# Altium integrated library Texas Instruments Interface 1394.IntLib: 47 symbols (part 10 of 17)
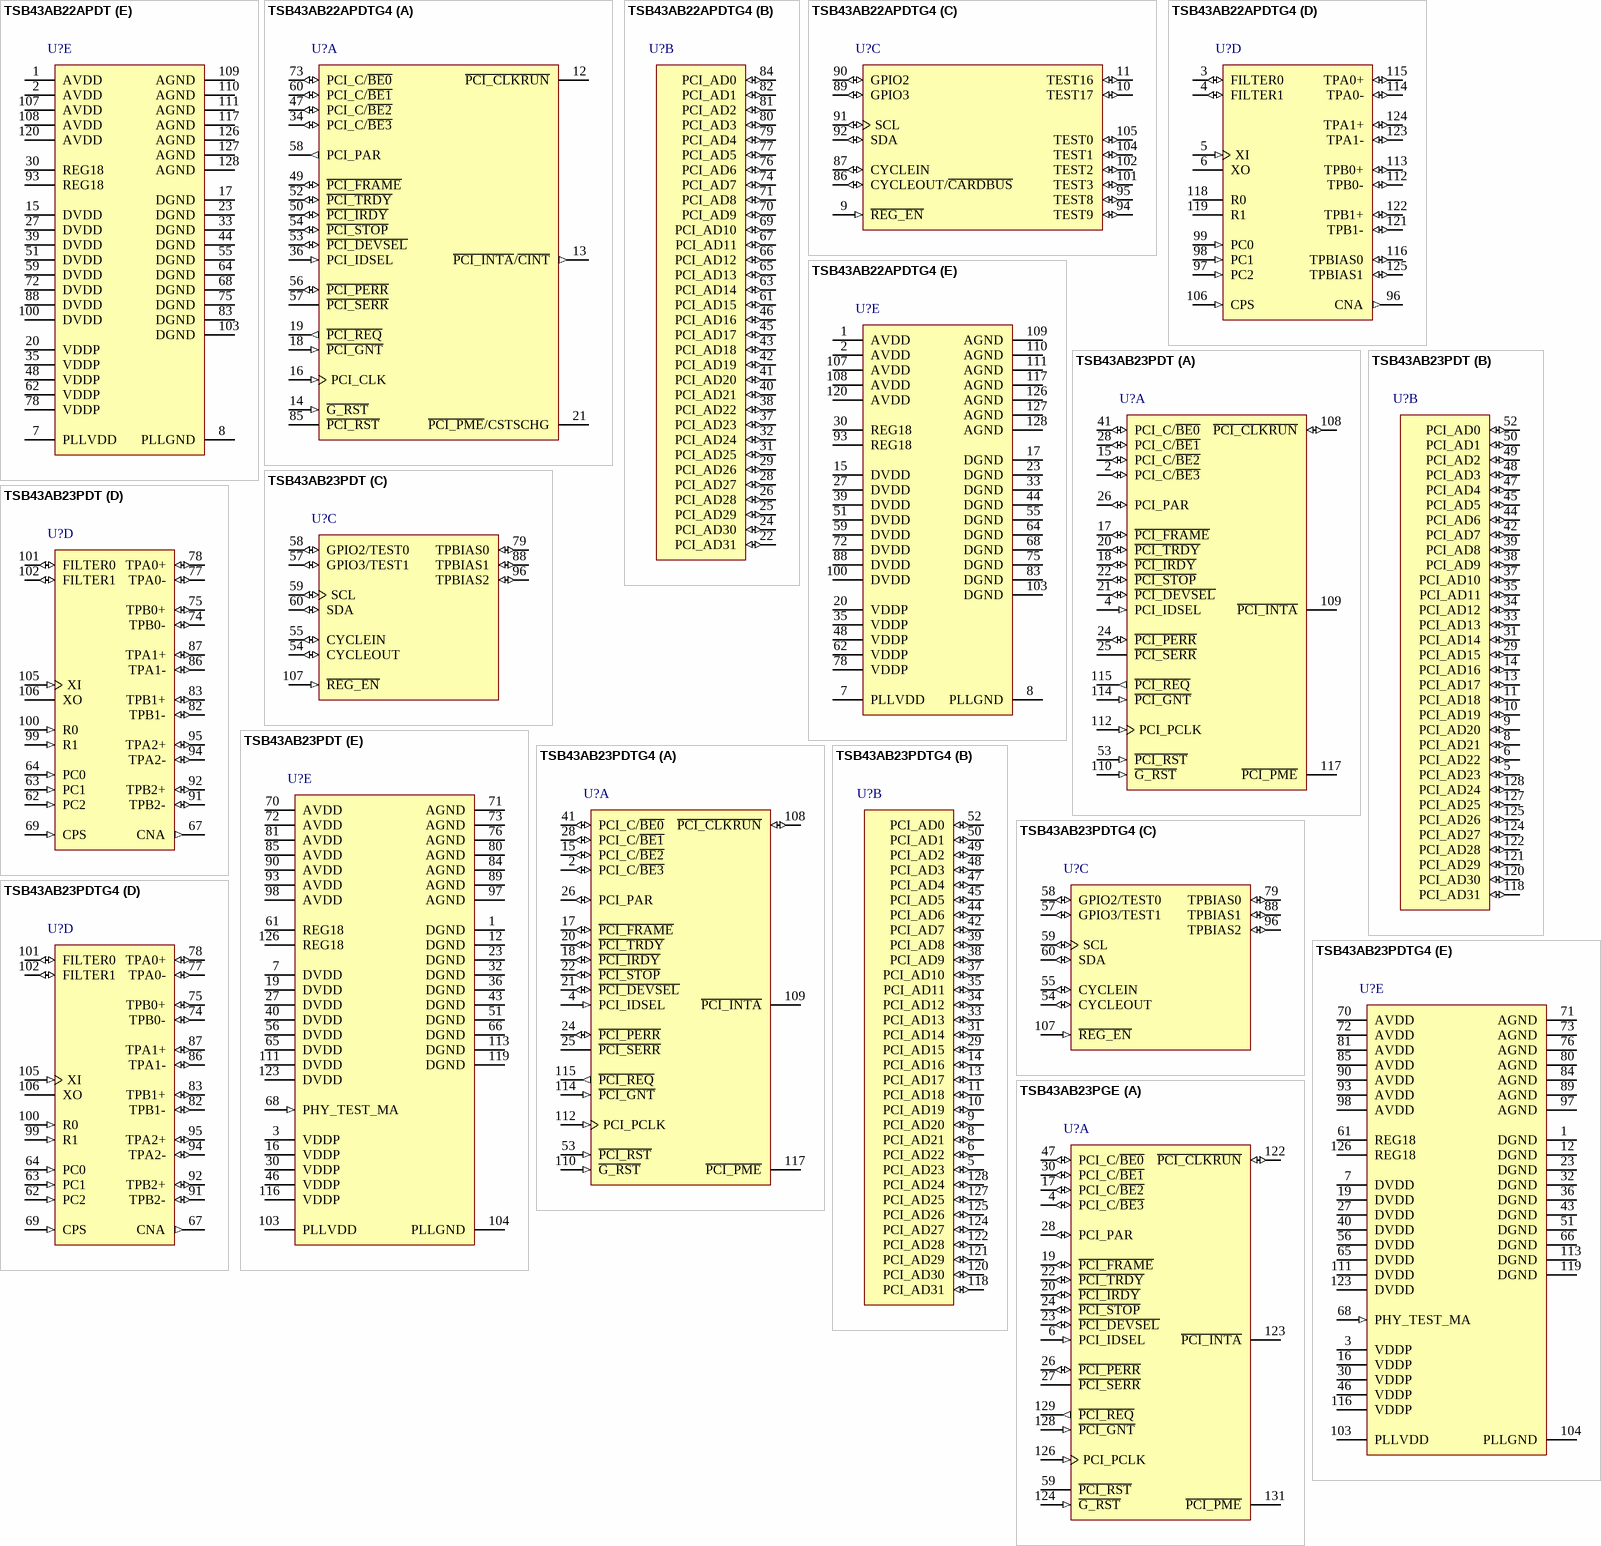
[diagram p20: symbols TSB43AB22APDT to TSB43AB23PGE]

## TSB43AB23PDT
designator U?
IEEE 1394a-2000 OHCI PHY/Link Layer Controller, 0 to 70 degC, 128-Pin TQFP (PDT), Green (RoHS & no Sb/Br); PartNumber: TSB43AB23PDT; Manufacturer: Texas Instruments; SubFamily: 1394 Integrated Device; Speed(Max)(Mbps): 400; FIFO(kb): 9; DatasheetVersion: SLLS450A; PackageVersion: revA, Nov-1995; PackageReference: PDT128; PackageDescription: 128-Pin Plastic Quad Flat Pack, 14 x 14 mm Body, 0.4 mm Pitch; Mounting Technology: Surface Mount; ComponentLink1Description: Datasheet; ComponentLink1URL: http://www.ti.com/general/docs/lit/getliterature.tsp?genericPartNumber=TSB43AB23&fileType=pdf; ComponentLink2Description: Package Specification; ComponentLink2URL: http://www.ti.com/litv/pdf/mpqf013
footprint TI-PDT128_N (Thin QFP, 128-Leads, Body 14x14mm, Pitch 0.4mm, IPC Medium Density)
footprint TI-PDT128_L (Thin QFP, 128-Leads, Body 14x14mm, Pitch 0.4mm, IPC High Density)
footprint TI-PDT128_M (Thin QFP, 128-Leads, Body 14x14mm, Pitch 0.4mm, IPC Low Density)
part A pins: 2 PCI_C/~{BE3} (io) "PCI bus commands and byte enables. The command and byte enable signals are multiplexed on the same PCI terminals. [see datasheet]", 4 PCI_IDSEL (in) "Initialization device select. PCI_IDSEL selects the TSB43AB23 device during configuration space accesses. [see datasheet]", 15 PCI_C/~{BE2} (io) "PCI bus commands and byte enables. The command and byte enable signals are multiplexed on the same PCI terminals. [see datasheet]", 17 ~{PCI_FRAME} (io) "PCI cycle frame. This signal is driven by the initiator of a PCI bus cycle. [see datasheet]", 18 ~{PCI_IRDY} (io) "PCI initiator ready. P\C\I\_\I\R\D\Y\ indicates the ability of the PCI bus initiator to complete the current data phase of the transaction. [see datasheet]", 20 ~{PCI_TRDY} (io) "PCI target ready. P\C\I\_\T\R\D\Y\ indicates the ability of the PCI bus target to complete the current data phase of the transaction. [see datasheet]", 21 ~{PCI_DEVSEL} (io) "PCI device select. The TSB43AB23 device asserts this signal to claim a PCI cycle as the target device. [see datasheet]", 22 ~{PCI_STOP} (io) "PCI cycle stop signal. This signal is driven by a PCI target to request the initiator to stop the current PCI bus transaction. [see datasheet]", 24 ~{PCI_PERR} (io) "PCI parity error indicator. [see datasheet]", 25 ~{PCI_SERR} (oc) "PCI system error. When bit 8 (SERR_ENB) in the command register at offset 04h in the PCI configuration space (see Section 3. [see datasheet]", 26 PCI_PAR (io) "PCI parity. In all PCI bus read and write cycles, the TSB43AB23 device calculates even parity across the PCI_AD and PCI_C/B\E\ buses. [see datasheet]", 28 PCI_C/~{BE1} (io) "PCI bus commands and byte enables. The command and byte enable signals are multiplexed on the same PCI terminals. [see datasheet]", 41 PCI_C/~{BE0} (io) "PCI bus commands and byte enables. The command and byte enable signals are multiplexed on the same PCI terminals. [see datasheet]", 53 ~{PCI_RST} (in) "PCI reset. [see datasheet]", 108 ~{PCI_CLKRUN} (io) "Clock run. This terminal provides clock control through the C\L\K\R\U\N\ protocol. [see datasheet]", 109 ~{PCI_INTA} (oc) "Interrupt signal. This output indicates interrupts from the TSB43AB23 device to the host. This terminal is implemented as open-drain.", 110 ~{G_RST} (in) "Global power reset. This reset brings all of the TSB43AB23 internal registers to their default states, including those registers not reset by P\C\I\_\R\S\T\. [see datasheet]", 112 PCI_PCLK (in) "PCI bus clock. Provides timing for all transactions on the PCI bus. All PCI signals are sampled at the rising edge of PCI_CLK.", 114 ~{PCI_GNT} (in) "PCI bus grant. This signal is driven by the PCI bus arbiter to grant the TSB43AB23 device access to the PCI bus after the current data transaction has completed. [see datasheet]", 115 ~{PCI_REQ} (out) "PCI bus request. Asserted by the TSB43AB23 device to request access to the bus as an initiator. [see datasheet]", 117 ~{PCI_PME} (oc) "Power management event. This terminal indicates wake events to the host and is implemented as an open-drain output."
part B pins: 5 PCI_AD23 (io) "PCI address/data bus. These signals make up the multiplexed PCI address and data bus on the PCI interface. [see datasheet]", 6 PCI_AD22 (io) "PCI address/data bus. These signals make up the multiplexed PCI address and data bus on the PCI interface. [see datasheet]", 8 PCI_AD21 (io) "PCI address/data bus. These signals make up the multiplexed PCI address and data bus on the PCI interface. [see datasheet]", 9 PCI_AD20 (io) "PCI address/data bus. These signals make up the multiplexed PCI address and data bus on the PCI interface. [see datasheet]", 10 PCI_AD19 (io) "PCI address/data bus. These signals make up the multiplexed PCI address and data bus on the PCI interface. [see datasheet]", 11 PCI_AD18 (io) "PCI address/data bus. These signals make up the multiplexed PCI address and data bus on the PCI interface. [see datasheet]", 13 PCI_AD17 (io) "PCI address/data bus. These signals make up the multiplexed PCI address and data bus on the PCI interface. [see datasheet]", 14 PCI_AD16 (io) "PCI address/data bus. These signals make up the multiplexed PCI address and data bus on the PCI interface. [see datasheet]", 29 PCI_AD15 (io) "PCI address/data bus. These signals make up the multiplexed PCI address and data bus on the PCI interface. [see datasheet]", 31 PCI_AD14 (io) "PCI address/data bus. These signals make up the multiplexed PCI address and data bus on the PCI interface. [see datasheet]", 33 PCI_AD13 (io) "PCI address/data bus. These signals make up the multiplexed PCI address and data bus on the PCI interface. [see datasheet]", 34 PCI_AD12 (io) "PCI address/data bus. These signals make up the multiplexed PCI address and data bus on the PCI interface. [see datasheet]", 35 PCI_AD11 (io) "PCI address/data bus. These signals make up the multiplexed PCI address and data bus on the PCI interface. [see datasheet]", 37 PCI_AD10 (io) "PCI address/data bus. These signals make up the multiplexed PCI address and data bus on the PCI interface. [see datasheet]", 38 PCI_AD9 (io) "PCI address/data bus. These signals make up the multiplexed PCI address and data bus on the PCI interface. [see datasheet]", 39 PCI_AD8 (io) "PCI address/data bus. These signals make up the multiplexed PCI address and data bus on the PCI interface. [see datasheet]", 42 PCI_AD7 (io) "PCI address/data bus. These signals make up the multiplexed PCI address and data bus on the PCI interface. [see datasheet]", 44 PCI_AD6 (io) "PCI address/data bus. These signals make up the multiplexed PCI address and data bus on the PCI interface. [see datasheet]", 45 PCI_AD5 (io) "PCI address/data bus. These signals make up the multiplexed PCI address and data bus on the PCI interface. [see datasheet]", 47 PCI_AD4 (io) "PCI address/data bus. These signals make up the multiplexed PCI address and data bus on the PCI interface. [see datasheet]", 48 PCI_AD3 (io) "PCI address/data bus. These signals make up the multiplexed PCI address and data bus on the PCI interface. [see datasheet]", 49 PCI_AD2 (io) "PCI address/data bus. These signals make up the multiplexed PCI address and data bus on the PCI interface. [see datasheet]", 50 PCI_AD1 (io) "PCI address/data bus. These signals make up the multiplexed PCI address and data bus on the PCI interface. [see datasheet]", 52 PCI_AD0 (io) "PCI address/data bus. These signals make up the multiplexed PCI address and data bus on the PCI interface. [see datasheet]", 118 PCI_AD31 (io) "PCI address/data bus. These signals make up the multiplexed PCI address and data bus on the PCI interface. During the address phase of a PCI cycle, AD31-AD0 contain a 32-bit address or other destination information. During the data phase, AD31-AD0 contai", 120 PCI_AD30 (io) "PCI address/data bus. These signals make up the multiplexed PCI address and data bus on the PCI interface. [see datasheet]", 121 PCI_AD29 (io) "PCI address/data bus. These signals make up the multiplexed PCI address and data bus on the PCI interface. [see datasheet]", 122 PCI_AD28 (io) "PCI address/data bus. These signals make up the multiplexed PCI address and data bus on the PCI interface. [see datasheet]", 124 PCI_AD27 (io) "PCI address/data bus. These signals make up the multiplexed PCI address and data bus on the PCI interface. [see datasheet]", 125 PCI_AD26 (io) "PCI address/data bus. These signals make up the multiplexed PCI address and data bus on the PCI interface. [see datasheet]", 127 PCI_AD25 (io) "PCI address/data bus. These signals make up the multiplexed PCI address and data bus on the PCI interface. [see datasheet]", 128 PCI_AD24 (io) "PCI address/data bus. These signals make up the multiplexed PCI address and data bus on the PCI interface. [see datasheet]"
part C pins: 54 CYCLEOUT (io) "The CYCLEOUT terminal provides an 8-kHz cycle timer synchronization signal. If CYCLEOUT is not implemented, this terminal must be pulled down to ground through a pulldown resistor.", 55 CYCLEIN (io) "The CYCLEIN terminal allows an external 8-kHz clock to be used as a cycle timer for synchronization with other system devices. [see datasheet]", 57 GPIO3/TEST1 (io) "General-purpose I/O [3]. This terminal defaults as an input and if it is not implemented, it is recommended that it be pulled low to ground with a 220-ohm resistor.", 58 GPIO2/TEST0 (io) "General-purpose I/O [2]. This terminal defaults as an input and if it is not implemented, it is recommended that it be pulled low to ground with a 220-ohm resistor.", 59 SCL (io) "Serial clock. This terminal provides the serial clock signaling and is implemented as open-drain. [see datasheet]", 60 SDA (io) "Serial data. At P\C\I\_\R\S\T\, the SDA signal is sampled to determine if a two-wire serial ROM is present. [see datasheet]", 79 TPBIAS0 (io) "Twisted-pair bias output. This provides the 1. [see datasheet]", 88 TPBIAS1 (io) "Twisted-pair bias output. This provides the 1. [see datasheet]", 96 TPBIAS2 (io) "Twisted-pair bias output. This provides the 1. [see datasheet]", 107 ~{REG_EN} (in) "Regulator enable. This terminal must be tied to ground to enable the internal voltage regulator. When using a single 3. [see datasheet]"
part D pins: 62 PC2 (in) "Power class programming inputs. On hardware reset, these inputs set the default value of the power class indicated during self-ID. Programming is done by tying these terminals high or low.", 63 PC1 (in) "Power class programming inputs. On hardware reset, these inputs set the default value of the power class indicated during self-ID. Programming is done by tying these terminals high or low.", 64 PC0 (in) "Power class programming inputs. On hardware reset, these inputs set the default value of the power class indicated during self-ID. Programming is done by tying these terminals high or low.", 67 CNA (out) "Cable not active. This terminal is asserted high when there are no ports receiving incoming bias voltage. [see datasheet]", 69 CPS (in) "Cable power status input. This terminal is normally connected to cable power through a 400-kohm resistor. [see datasheet]", 74 TPB0- (io) "Twisted-pair cable B differential signal terminals. [see datasheet]", 75 TPB0+ (io) "Twisted-pair cable B differential signal terminals. [see datasheet]", 77 TPA0- (io) "Twisted-pair cable A differential signal terminals. [see datasheet]", 78 TPA0+ (io) "Twisted-pair cable A differential signal terminals. [see datasheet]", 82 TPB1- (io) "Twisted-pair cable B differential signal terminals. [see datasheet]", 83 TPB1+ (io) "Twisted-pair cable B differential signal terminals. [see datasheet]", 86 TPA1- (io) "Twisted-pair cable A differential signal terminals. [see datasheet]", 87 TPA1+ (io) "Twisted-pair cable A differential signal terminals. [see datasheet]", 91 TPB2- (io) "Twisted-pair cable B differential signal terminals. [see datasheet]", 92 TPB2+ (io) "Twisted-pair cable B differential signal terminals. [see datasheet]", 94 TPA2- (io) "Twisted-pair cable B differential signal terminals. [see datasheet]", 95 TPA2+ (io) "Twisted-pair cable B differential signal terminals. [see datasheet]", 99 R1 (in) "Current-setting resistor terminals. These terminals are connected to an external resistance to set the internal operating currents and cable driver output currents. A resistance of 6. [see datasheet]", 100 R0 (in) "Current-setting resistor terminals. These terminals are connected to an external resistance to set the internal operating currents and cable driver output currents. A resistance of 6. [see datasheet]", 101 FILTER0 (io) "PLL filter terminals. [see datasheet]", 102 FILTER1 (io) "PLL filter terminals. [see datasheet]", 105 XI (in) "Crystal oscillator inputs. These pins connect to a 24.576-MHz parallel resonant fundamental mode crystal. [see datasheet]", 106 XO "Crystal oscillator inputs. These pins connect to a 24.576-MHz parallel resonant fundamental mode crystal. [see datasheet]"
part E pins: 1 DGND (power) "Digital circuit ground terminals. These terminals must be tied together to the low-impedance circuit board ground plane.", 3 VDDP (power) "PCI signaling clamp voltage power input. PCI signals are clamped per the PCI Local Bus Specification. In addition, if a 5-V ROM is used, the VDDP must be connected to 5 V.", 7 DVDD (power) "Digital circuit power terminals. A parallel combination of high frequency decoupling capacitors near each DVDD terminal is suggested, such as 0.1 uF and 0.001 uF. [see datasheet]", 12 DGND (power) "Digital circuit ground terminals. These terminals must be tied together to the low-impedance circuit board ground plane.", 16 VDDP (power) "PCI signaling clamp voltage power input. PCI signals are clamped per the PCI Local Bus Specification. In addition, if a 5-V ROM is used, the VDDP must be connected to 5 V.", 19 DVDD (power) "Digital circuit power terminals. A parallel combination of high frequency decoupling capacitors near each DVDD terminal is suggested, such as 0.1 uF and 0.001 uF. [see datasheet]", 23 DGND (power) "Digital circuit ground terminals. These terminals must be tied together to the low-impedance circuit board ground plane.", 27 DVDD (power) "Digital circuit power terminals. A parallel combination of high frequency decoupling capacitors near each DVDD terminal is suggested, such as 0.1 uF and 0.001 uF. [see datasheet]", 30 VDDP (power) "PCI signaling clamp voltage power input. PCI signals are clamped per the PCI Local Bus Specification. In addition, if a 5-V ROM is used, the VDDP must be connected to 5 V.", 32 DGND (power) "Digital circuit ground terminals. These terminals must be tied together to the low-impedance circuit board ground plane.", 36 DGND (power) "Digital circuit ground terminals. These terminals must be tied together to the low-impedance circuit board ground plane.", 40 DVDD (power) "Digital circuit power terminals. A parallel combination of high frequency decoupling capacitors near each DVDD terminal is suggested, such as 0.1 uF and 0.001 uF. [see datasheet]", 43 DGND (power) "Digital circuit ground terminals. These terminals must be tied together to the low-impedance circuit board ground plane.", 46 VDDP (power) "PCI signaling clamp voltage power input. PCI signals are clamped per the PCI Local Bus Specification. In addition, if a 5-V ROM is used, the VDDP must be connected to 5 V.", 51 DGND (power) "Digital circuit ground terminals. These terminals must be tied together to the low-impedance circuit board ground plane.", 56 DVDD (power) "Digital circuit power terminals. A parallel combination of high frequency decoupling capacitors near each DVDD terminal is suggested, such as 0.1 uF and 0.001 uF. [see datasheet]", 61 REG18 (power) "REG18. 1.8-V power supply for the device core. The internal voltage regulator provides 1.8 V from DVDD. [see datasheet]", 65 DVDD (power) "Digital circuit power terminals. A parallel combination of high frequency decoupling capacitors near each DVDD terminal is suggested, such as 0.1 uF and 0.001 uF. [see datasheet]", 66 DGND (power) "Digital circuit ground terminals. These terminals must be tied together to the low-impedance circuit board ground plane.", 68 PHY_TEST_MA (in) "Test control input. This input is used in the manufacturing test of the TSB43AB23 device. For normal use, the terminal must be tied to DVDD.", 70 AVDD (power) "Analog circuit power terminals. A parallel combination of high frequency decoupling capacitors near each terminal is suggested, such as 0.1 uF and 0.001 uF. [see datasheet]", 71 AGND (power) "Analog circuit ground terminals. These terminals must be tied together to the low-impedance circuit board ground plane.", 72 AVDD (power) "Analog circuit power terminals. A parallel combination of high frequency decoupling capacitors near each terminal is suggested, such as 0.1 uF and 0.001 uF. [see datasheet]", 73 AGND (power) "Analog circuit ground terminals. These terminals must be tied together to the low-impedance circuit board ground plane.", 76 AGND (power) "Analog circuit ground terminals. These terminals must be tied together to the low-impedance circuit board ground plane.", 80 AGND (power) "Analog circuit ground terminals. These terminals must be tied together to the low-impedance circuit board ground plane.", 81 AVDD (power) "Analog circuit power terminals. A parallel combination of high frequency decoupling capacitors near each terminal is suggested, such as 0.1 uF and 0.001 uF. [see datasheet]", 84 AGND (power) "Analog circuit ground terminals. These terminals must be tied together to the low-impedance circuit board ground plane.", 85 AVDD (power) "Analog circuit power terminals. A parallel combination of high frequency decoupling capacitors near each terminal is suggested, such as 0.1 uF and 0.001 uF. [see datasheet]", 89 AGND (power) "Analog circuit ground terminals. These terminals must be tied together to the low-impedance circuit board ground plane.", 90 AVDD (power) "Analog circuit power terminals. A parallel combination of high frequency decoupling capacitors near each terminal is suggested, such as 0.1 uF and 0.001 uF. [see datasheet]", 93 AVDD (power) "Analog circuit power terminals. A parallel combination of high frequency decoupling capacitors near each terminal is suggested, such as 0.1 uF and 0.001 uF. [see datasheet]", 97 AGND (power) "Analog circuit ground terminals. These terminals must be tied together to the low-impedance circuit board ground plane.", 98 AVDD (power) "Analog circuit power terminals. A parallel combination of high frequency decoupling capacitors near each terminal is suggested, such as 0.1 uF and 0.001 uF. [see datasheet]", 103 PLLVDD (power) "PLL circuit power terminal. A parallel combination of high frequency decoupling capacitors near the terminal is suggested, such as 0.1 uF and 0.001 µF. [see datasheet]", 104 PLLGND (power) "PLL circuit ground terminal. This terminal must be tied to the low-impedance circuit board ground plane.", 111 DVDD (power) "Digital circuit power terminals. A parallel combination of high frequency decoupling capacitors near each DVDD terminal is suggested, such as 0.1 uF and 0.001 uF. [see datasheet]", 113 DGND (power) "Digital circuit ground terminals. These terminals must be tied together to the low-impedance circuit board ground plane.", 116 VDDP (power) "PCI signaling clamp voltage power input. PCI signals are clamped per the PCI Local Bus Specification. In addition, if a 5-V ROM is used, the VDDP must be connected to 5 V.", 119 DGND (power) "Digital circuit ground terminals. These terminals must be tied together to the low-impedance circuit board ground plane.", 123 DVDD (power) "Digital circuit power terminals. A parallel combination of high frequency decoupling capacitors near each DVDD terminal is suggested, such as 0.1 uF and 0.001 uF. [see datasheet]", 126 REG18 (power) "REG18. 1.8-V power supply for the device core. The internal voltage regulator provides 1.8 V from DVDD. [see datasheet]"

## TSB43AB23PDTG4
designator U?
IEEE 1394a-2000 OHCI PHY/Link Layer Controller, 0 to 70 degC, 128-Pin TQFP (PDT), Green (RoHS & no Sb/Br); PartNumber: TSB43AB23PDTG4; Manufacturer: Texas Instruments; SubFamily: 1394 Integrated Device; Speed(Max)(Mbps): 400; FIFO(kb): 9; DatasheetVersion: SLLS450A; PackageVersion: revA, Nov-1995; PackageReference: PDT128; PackageDescription: 128-Pin Plastic Quad Flat Pack, 14 x 14 mm Body, 0.4 mm Pitch; Mounting Technology: Surface Mount; ComponentLink1Description: Datasheet; ComponentLink1URL: http://www.ti.com/general/docs/lit/getliterature.tsp?genericPartNumber=TSB43AB23&fileType=pdf; ComponentLink2Description: Package Specification; ComponentLink2URL: http://www.ti.com/litv/pdf/mpqf013
footprint TI-PDT128_N (Thin QFP, 128-Leads, Body 14x14mm, Pitch 0.4mm, IPC Medium Density)
footprint TI-PDT128_L (Thin QFP, 128-Leads, Body 14x14mm, Pitch 0.4mm, IPC High Density)
footprint TI-PDT128_M (Thin QFP, 128-Leads, Body 14x14mm, Pitch 0.4mm, IPC Low Density)
part A pins: 2 PCI_C/~{BE3} (io) "PCI bus commands and byte enables. The command and byte enable signals are multiplexed on the same PCI terminals. [see datasheet]", 4 PCI_IDSEL (in) "Initialization device select. PCI_IDSEL selects the TSB43AB23 device during configuration space accesses. [see datasheet]", 15 PCI_C/~{BE2} (io) "PCI bus commands and byte enables. The command and byte enable signals are multiplexed on the same PCI terminals. [see datasheet]", 17 ~{PCI_FRAME} (io) "PCI cycle frame. This signal is driven by the initiator of a PCI bus cycle. [see datasheet]", 18 ~{PCI_IRDY} (io) "PCI initiator ready. P\C\I\_\I\R\D\Y\ indicates the ability of the PCI bus initiator to complete the current data phase of the transaction. [see datasheet]", 20 ~{PCI_TRDY} (io) "PCI target ready. P\C\I\_\T\R\D\Y\ indicates the ability of the PCI bus target to complete the current data phase of the transaction. [see datasheet]", 21 ~{PCI_DEVSEL} (io) "PCI device select. The TSB43AB23 device asserts this signal to claim a PCI cycle as the target device. [see datasheet]", 22 ~{PCI_STOP} (io) "PCI cycle stop signal. This signal is driven by a PCI target to request the initiator to stop the current PCI bus transaction. [see datasheet]", 24 ~{PCI_PERR} (io) "PCI parity error indicator. [see datasheet]", 25 ~{PCI_SERR} (oc) "PCI system error. When bit 8 (SERR_ENB) in the command register at offset 04h in the PCI configuration space (see Section 3. [see datasheet]", 26 PCI_PAR (io) "PCI parity. In all PCI bus read and write cycles, the TSB43AB23 device calculates even parity across the PCI_AD and PCI_C/B\E\ buses. [see datasheet]", 28 PCI_C/~{BE1} (io) "PCI bus commands and byte enables. The command and byte enable signals are multiplexed on the same PCI terminals. [see datasheet]", 41 PCI_C/~{BE0} (io) "PCI bus commands and byte enables. The command and byte enable signals are multiplexed on the same PCI terminals. [see datasheet]", 53 ~{PCI_RST} (in) "PCI reset. [see datasheet]", 108 ~{PCI_CLKRUN} (io) "Clock run. This terminal provides clock control through the C\L\K\R\U\N\ protocol. [see datasheet]", 109 ~{PCI_INTA} (oc) "Interrupt signal. This output indicates interrupts from the TSB43AB23 device to the host. This terminal is implemented as open-drain.", 110 ~{G_RST} (in) "Global power reset. This reset brings all of the TSB43AB23 internal registers to their default states, including those registers not reset by P\C\I\_\R\S\T\. [see datasheet]", 112 PCI_PCLK (in) "PCI bus clock. Provides timing for all transactions on the PCI bus. All PCI signals are sampled at the rising edge of PCI_CLK.", 114 ~{PCI_GNT} (in) "PCI bus grant. This signal is driven by the PCI bus arbiter to grant the TSB43AB23 device access to the PCI bus after the current data transaction has completed. [see datasheet]", 115 ~{PCI_REQ} (out) "PCI bus request. Asserted by the TSB43AB23 device to request access to the bus as an initiator. [see datasheet]", 117 ~{PCI_PME} (oc) "Power management event. This terminal indicates wake events to the host and is implemented as an open-drain output."
part B pins: 5 PCI_AD23 (io) "PCI address/data bus. These signals make up the multiplexed PCI address and data bus on the PCI interface. [see datasheet]", 6 PCI_AD22 (io) "PCI address/data bus. These signals make up the multiplexed PCI address and data bus on the PCI interface. [see datasheet]", 8 PCI_AD21 (io) "PCI address/data bus. These signals make up the multiplexed PCI address and data bus on the PCI interface. [see datasheet]", 9 PCI_AD20 (io) "PCI address/data bus. These signals make up the multiplexed PCI address and data bus on the PCI interface. [see datasheet]", 10 PCI_AD19 (io) "PCI address/data bus. These signals make up the multiplexed PCI address and data bus on the PCI interface. [see datasheet]", 11 PCI_AD18 (io) "PCI address/data bus. These signals make up the multiplexed PCI address and data bus on the PCI interface. [see datasheet]", 13 PCI_AD17 (io) "PCI address/data bus. These signals make up the multiplexed PCI address and data bus on the PCI interface. [see datasheet]", 14 PCI_AD16 (io) "PCI address/data bus. These signals make up the multiplexed PCI address and data bus on the PCI interface. [see datasheet]", 29 PCI_AD15 (io) "PCI address/data bus. These signals make up the multiplexed PCI address and data bus on the PCI interface. [see datasheet]", 31 PCI_AD14 (io) "PCI address/data bus. These signals make up the multiplexed PCI address and data bus on the PCI interface. [see datasheet]", 33 PCI_AD13 (io) "PCI address/data bus. These signals make up the multiplexed PCI address and data bus on the PCI interface. [see datasheet]", 34 PCI_AD12 (io) "PCI address/data bus. These signals make up the multiplexed PCI address and data bus on the PCI interface. [see datasheet]", 35 PCI_AD11 (io) "PCI address/data bus. These signals make up the multiplexed PCI address and data bus on the PCI interface. [see datasheet]", 37 PCI_AD10 (io) "PCI address/data bus. These signals make up the multiplexed PCI address and data bus on the PCI interface. [see datasheet]", 38 PCI_AD9 (io) "PCI address/data bus. These signals make up the multiplexed PCI address and data bus on the PCI interface. [see datasheet]", 39 PCI_AD8 (io) "PCI address/data bus. These signals make up the multiplexed PCI address and data bus on the PCI interface. [see datasheet]", 42 PCI_AD7 (io) "PCI address/data bus. These signals make up the multiplexed PCI address and data bus on the PCI interface. [see datasheet]", 44 PCI_AD6 (io) "PCI address/data bus. These signals make up the multiplexed PCI address and data bus on the PCI interface. [see datasheet]", 45 PCI_AD5 (io) "PCI address/data bus. These signals make up the multiplexed PCI address and data bus on the PCI interface. [see datasheet]", 47 PCI_AD4 (io) "PCI address/data bus. These signals make up the multiplexed PCI address and data bus on the PCI interface. [see datasheet]", 48 PCI_AD3 (io) "PCI address/data bus. These signals make up the multiplexed PCI address and data bus on the PCI interface. [see datasheet]", 49 PCI_AD2 (io) "PCI address/data bus. These signals make up the multiplexed PCI address and data bus on the PCI interface. [see datasheet]", 50 PCI_AD1 (io) "PCI address/data bus. These signals make up the multiplexed PCI address and data bus on the PCI interface. [see datasheet]", 52 PCI_AD0 (io) "PCI address/data bus. These signals make up the multiplexed PCI address and data bus on the PCI interface. [see datasheet]", 118 PCI_AD31 (io) "PCI address/data bus. These signals make up the multiplexed PCI address and data bus on the PCI interface. During the address phase of a PCI cycle, AD31-AD0 contain a 32-bit address or other destination information. During the data phase, AD31-AD0 contai", 120 PCI_AD30 (io) "PCI address/data bus. These signals make up the multiplexed PCI address and data bus on the PCI interface. [see datasheet]", 121 PCI_AD29 (io) "PCI address/data bus. These signals make up the multiplexed PCI address and data bus on the PCI interface. [see datasheet]", 122 PCI_AD28 (io) "PCI address/data bus. These signals make up the multiplexed PCI address and data bus on the PCI interface. [see datasheet]", 124 PCI_AD27 (io) "PCI address/data bus. These signals make up the multiplexed PCI address and data bus on the PCI interface. [see datasheet]", 125 PCI_AD26 (io) "PCI address/data bus. These signals make up the multiplexed PCI address and data bus on the PCI interface. [see datasheet]", 127 PCI_AD25 (io) "PCI address/data bus. These signals make up the multiplexed PCI address and data bus on the PCI interface. [see datasheet]", 128 PCI_AD24 (io) "PCI address/data bus. These signals make up the multiplexed PCI address and data bus on the PCI interface. [see datasheet]"
part C pins: 54 CYCLEOUT (io) "The CYCLEOUT terminal provides an 8-kHz cycle timer synchronization signal. If CYCLEOUT is not implemented, this terminal must be pulled down to ground through a pulldown resistor.", 55 CYCLEIN (io) "The CYCLEIN terminal allows an external 8-kHz clock to be used as a cycle timer for synchronization with other system devices. [see datasheet]", 57 GPIO3/TEST1 (io) "General-purpose I/O [3]. This terminal defaults as an input and if it is not implemented, it is recommended that it be pulled low to ground with a 220-ohm resistor.", 58 GPIO2/TEST0 (io) "General-purpose I/O [2]. This terminal defaults as an input and if it is not implemented, it is recommended that it be pulled low to ground with a 220-ohm resistor.", 59 SCL (io) "Serial clock. This terminal provides the serial clock signaling and is implemented as open-drain. [see datasheet]", 60 SDA (io) "Serial data. At P\C\I\_\R\S\T\, the SDA signal is sampled to determine if a two-wire serial ROM is present. [see datasheet]", 79 TPBIAS0 (io) "Twisted-pair bias output. This provides the 1. [see datasheet]", 88 TPBIAS1 (io) "Twisted-pair bias output. This provides the 1. [see datasheet]", 96 TPBIAS2 (io) "Twisted-pair bias output. This provides the 1. [see datasheet]", 107 ~{REG_EN} (in) "Regulator enable. This terminal must be tied to ground to enable the internal voltage regulator. When using a single 3. [see datasheet]"
part D pins: 62 PC2 (in) "Power class programming inputs. On hardware reset, these inputs set the default value of the power class indicated during self-ID. Programming is done by tying these terminals high or low.", 63 PC1 (in) "Power class programming inputs. On hardware reset, these inputs set the default value of the power class indicated during self-ID. Programming is done by tying these terminals high or low.", 64 PC0 (in) "Power class programming inputs. On hardware reset, these inputs set the default value of the power class indicated during self-ID. Programming is done by tying these terminals high or low.", 67 CNA (out) "Cable not active. This terminal is asserted high when there are no ports receiving incoming bias voltage. [see datasheet]", 69 CPS (in) "Cable power status input. This terminal is normally connected to cable power through a 400-kohm resistor. [see datasheet]", 74 TPB0- (io) "Twisted-pair cable B differential signal terminals. [see datasheet]", 75 TPB0+ (io) "Twisted-pair cable B differential signal terminals. [see datasheet]", 77 TPA0- (io) "Twisted-pair cable A differential signal terminals. [see datasheet]", 78 TPA0+ (io) "Twisted-pair cable A differential signal terminals. [see datasheet]", 82 TPB1- (io) "Twisted-pair cable B differential signal terminals. [see datasheet]", 83 TPB1+ (io) "Twisted-pair cable B differential signal terminals. [see datasheet]", 86 TPA1- (io) "Twisted-pair cable A differential signal terminals. [see datasheet]", 87 TPA1+ (io) "Twisted-pair cable A differential signal terminals. [see datasheet]", 91 TPB2- (io) "Twisted-pair cable B differential signal terminals. [see datasheet]", 92 TPB2+ (io) "Twisted-pair cable B differential signal terminals. [see datasheet]", 94 TPA2- (io) "Twisted-pair cable B differential signal terminals. [see datasheet]", 95 TPA2+ (io) "Twisted-pair cable B differential signal terminals. [see datasheet]", 99 R1 (in) "Current-setting resistor terminals. These terminals are connected to an external resistance to set the internal operating currents and cable driver output currents. A resistance of 6. [see datasheet]", 100 R0 (in) "Current-setting resistor terminals. These terminals are connected to an external resistance to set the internal operating currents and cable driver output currents. A resistance of 6. [see datasheet]", 101 FILTER0 (io) "PLL filter terminals. [see datasheet]", 102 FILTER1 (io) "PLL filter terminals. [see datasheet]", 105 XI (in) "Crystal oscillator inputs. These pins connect to a 24.576-MHz parallel resonant fundamental mode crystal. [see datasheet]", 106 XO "Crystal oscillator inputs. These pins connect to a 24.576-MHz parallel resonant fundamental mode crystal. [see datasheet]"
part E pins: 1 DGND (power) "Digital circuit ground terminals. These terminals must be tied together to the low-impedance circuit board ground plane.", 3 VDDP (power) "PCI signaling clamp voltage power input. PCI signals are clamped per the PCI Local Bus Specification. In addition, if a 5-V ROM is used, the VDDP must be connected to 5 V.", 7 DVDD (power) "Digital circuit power terminals. A parallel combination of high frequency decoupling capacitors near each DVDD terminal is suggested, such as 0.1 uF and 0.001 uF. [see datasheet]", 12 DGND (power) "Digital circuit ground terminals. These terminals must be tied together to the low-impedance circuit board ground plane.", 16 VDDP (power) "PCI signaling clamp voltage power input. PCI signals are clamped per the PCI Local Bus Specification. In addition, if a 5-V ROM is used, the VDDP must be connected to 5 V.", 19 DVDD (power) "Digital circuit power terminals. A parallel combination of high frequency decoupling capacitors near each DVDD terminal is suggested, such as 0.1 uF and 0.001 uF. [see datasheet]", 23 DGND (power) "Digital circuit ground terminals. These terminals must be tied together to the low-impedance circuit board ground plane.", 27 DVDD (power) "Digital circuit power terminals. A parallel combination of high frequency decoupling capacitors near each DVDD terminal is suggested, such as 0.1 uF and 0.001 uF. [see datasheet]", 30 VDDP (power) "PCI signaling clamp voltage power input. PCI signals are clamped per the PCI Local Bus Specification. In addition, if a 5-V ROM is used, the VDDP must be connected to 5 V.", 32 DGND (power) "Digital circuit ground terminals. These terminals must be tied together to the low-impedance circuit board ground plane.", 36 DGND (power) "Digital circuit ground terminals. These terminals must be tied together to the low-impedance circuit board ground plane.", 40 DVDD (power) "Digital circuit power terminals. A parallel combination of high frequency decoupling capacitors near each DVDD terminal is suggested, such as 0.1 uF and 0.001 uF. [see datasheet]", 43 DGND (power) "Digital circuit ground terminals. These terminals must be tied together to the low-impedance circuit board ground plane.", 46 VDDP (power) "PCI signaling clamp voltage power input. PCI signals are clamped per the PCI Local Bus Specification. In addition, if a 5-V ROM is used, the VDDP must be connected to 5 V.", 51 DGND (power) "Digital circuit ground terminals. These terminals must be tied together to the low-impedance circuit board ground plane.", 56 DVDD (power) "Digital circuit power terminals. A parallel combination of high frequency decoupling capacitors near each DVDD terminal is suggested, such as 0.1 uF and 0.001 uF. [see datasheet]", 61 REG18 (power) "REG18. 1.8-V power supply for the device core. The internal voltage regulator provides 1.8 V from DVDD. [see datasheet]", 65 DVDD (power) "Digital circuit power terminals. A parallel combination of high frequency decoupling capacitors near each DVDD terminal is suggested, such as 0.1 uF and 0.001 uF. [see datasheet]", 66 DGND (power) "Digital circuit ground terminals. These terminals must be tied together to the low-impedance circuit board ground plane.", 68 PHY_TEST_MA (in) "Test control input. This input is used in the manufacturing test of the TSB43AB23 device. For normal use, the terminal must be tied to DVDD.", 70 AVDD (power) "Analog circuit power terminals. A parallel combination of high frequency decoupling capacitors near each terminal is suggested, such as 0.1 uF and 0.001 uF. [see datasheet]", 71 AGND (power) "Analog circuit ground terminals. These terminals must be tied together to the low-impedance circuit board ground plane.", 72 AVDD (power) "Analog circuit power terminals. A parallel combination of high frequency decoupling capacitors near each terminal is suggested, such as 0.1 uF and 0.001 uF. [see datasheet]", 73 AGND (power) "Analog circuit ground terminals. These terminals must be tied together to the low-impedance circuit board ground plane.", 76 AGND (power) "Analog circuit ground terminals. These terminals must be tied together to the low-impedance circuit board ground plane.", 80 AGND (power) "Analog circuit ground terminals. These terminals must be tied together to the low-impedance circuit board ground plane.", 81 AVDD (power) "Analog circuit power terminals. A parallel combination of high frequency decoupling capacitors near each terminal is suggested, such as 0.1 uF and 0.001 uF. [see datasheet]", 84 AGND (power) "Analog circuit ground terminals. These terminals must be tied together to the low-impedance circuit board ground plane.", 85 AVDD (power) "Analog circuit power terminals. A parallel combination of high frequency decoupling capacitors near each terminal is suggested, such as 0.1 uF and 0.001 uF. [see datasheet]", 89 AGND (power) "Analog circuit ground terminals. These terminals must be tied together to the low-impedance circuit board ground plane.", 90 AVDD (power) "Analog circuit power terminals. A parallel combination of high frequency decoupling capacitors near each terminal is suggested, such as 0.1 uF and 0.001 uF. [see datasheet]", 93 AVDD (power) "Analog circuit power terminals. A parallel combination of high frequency decoupling capacitors near each terminal is suggested, such as 0.1 uF and 0.001 uF. [see datasheet]", 97 AGND (power) "Analog circuit ground terminals. These terminals must be tied together to the low-impedance circuit board ground plane.", 98 AVDD (power) "Analog circuit power terminals. A parallel combination of high frequency decoupling capacitors near each terminal is suggested, such as 0.1 uF and 0.001 uF. [see datasheet]", 103 PLLVDD (power) "PLL circuit power terminal. A parallel combination of high frequency decoupling capacitors near the terminal is suggested, such as 0.1 uF and 0.001 µF. [see datasheet]", 104 PLLGND (power) "PLL circuit ground terminal. This terminal must be tied to the low-impedance circuit board ground plane.", 111 DVDD (power) "Digital circuit power terminals. A parallel combination of high frequency decoupling capacitors near each DVDD terminal is suggested, such as 0.1 uF and 0.001 uF. [see datasheet]", 113 DGND (power) "Digital circuit ground terminals. These terminals must be tied together to the low-impedance circuit board ground plane.", 116 VDDP (power) "PCI signaling clamp voltage power input. PCI signals are clamped per the PCI Local Bus Specification. In addition, if a 5-V ROM is used, the VDDP must be connected to 5 V.", 119 DGND (power) "Digital circuit ground terminals. These terminals must be tied together to the low-impedance circuit board ground plane.", 123 DVDD (power) "Digital circuit power terminals. A parallel combination of high frequency decoupling capacitors near each DVDD terminal is suggested, such as 0.1 uF and 0.001 uF. [see datasheet]", 126 REG18 (power) "REG18. 1.8-V power supply for the device core. The internal voltage regulator provides 1.8 V from DVDD. [see datasheet]"

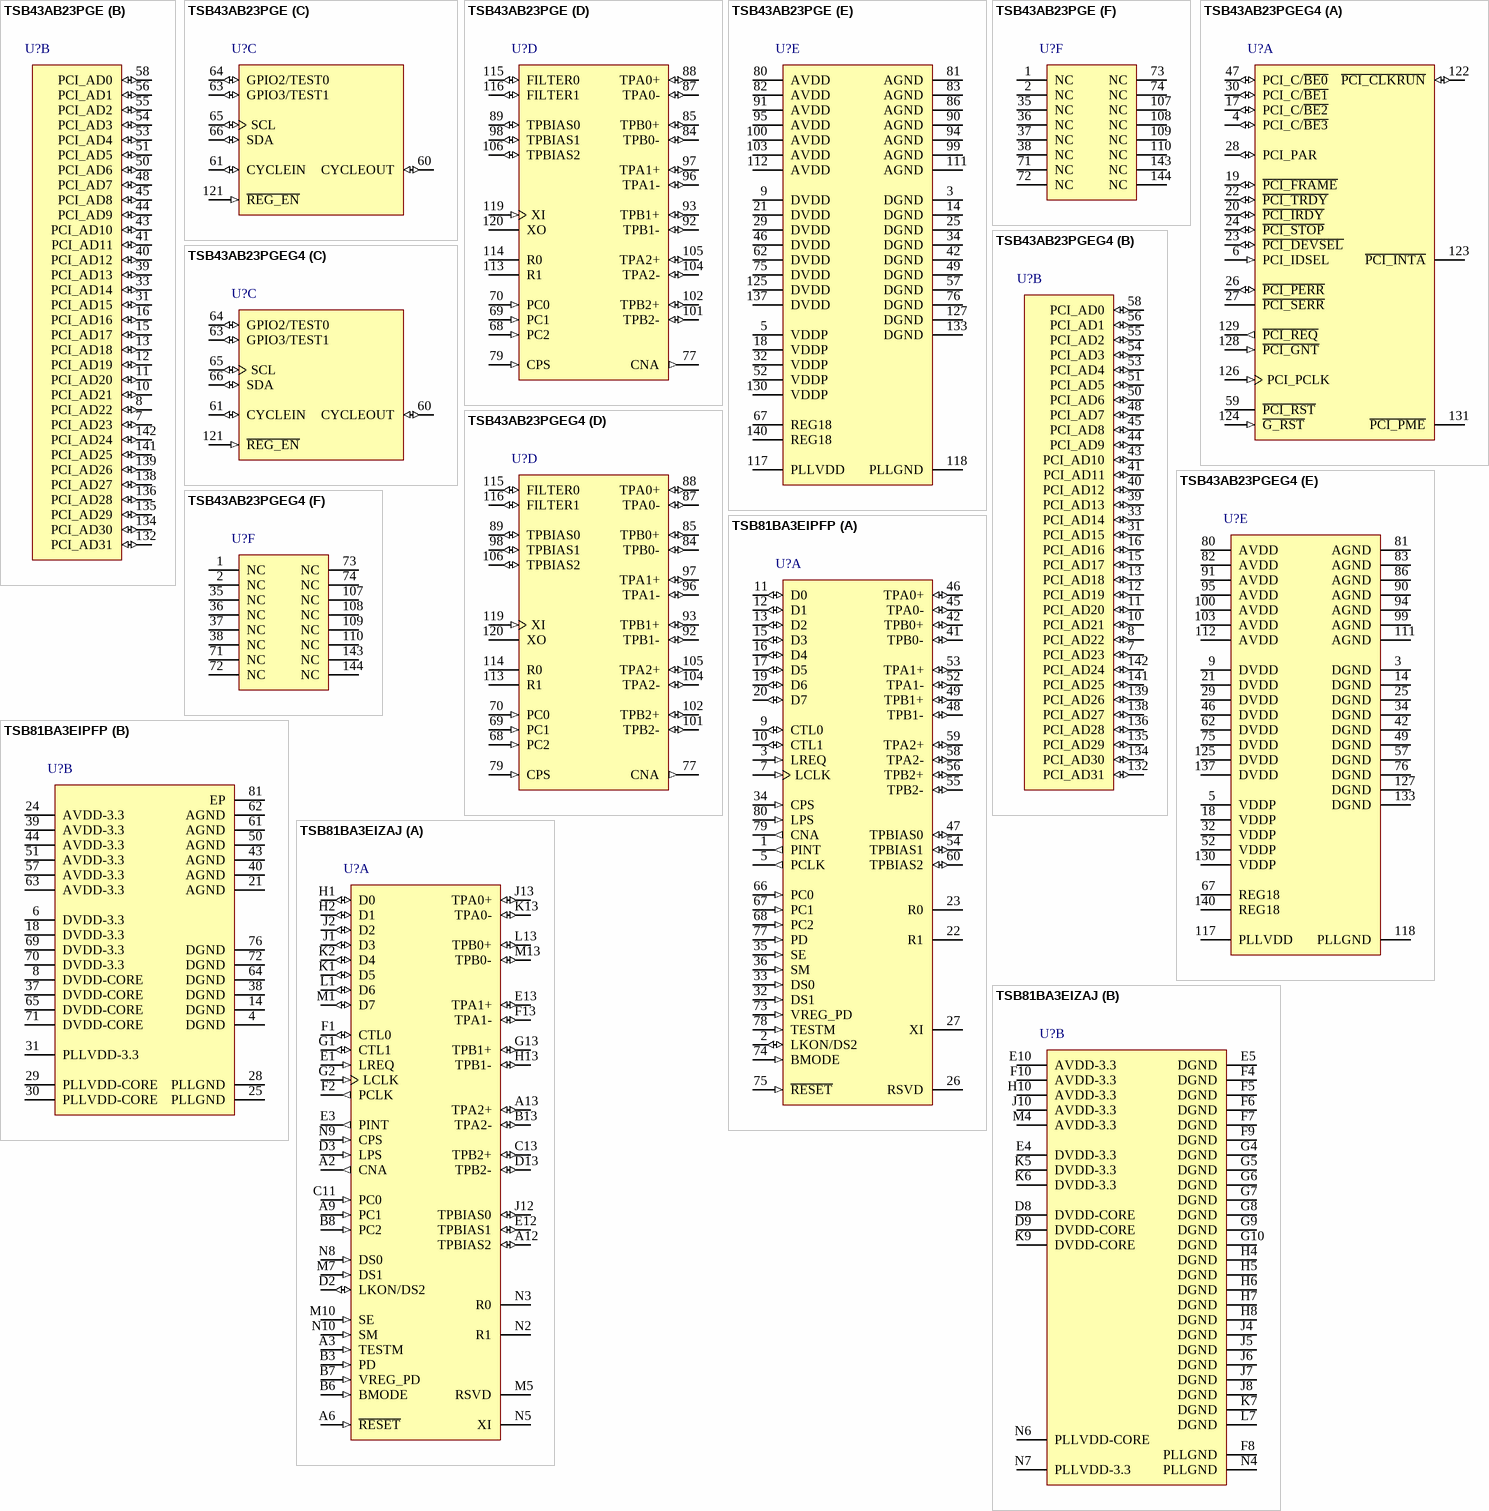
[diagram p6: symbols TSB43AB23PGE to TSB81BA3EIZAJ]